# Altium schematic symbol library MSP430F149IPM.SchLib: 1 symbol
Pins are listed as number, name and electrical type; pins without a type are passive.

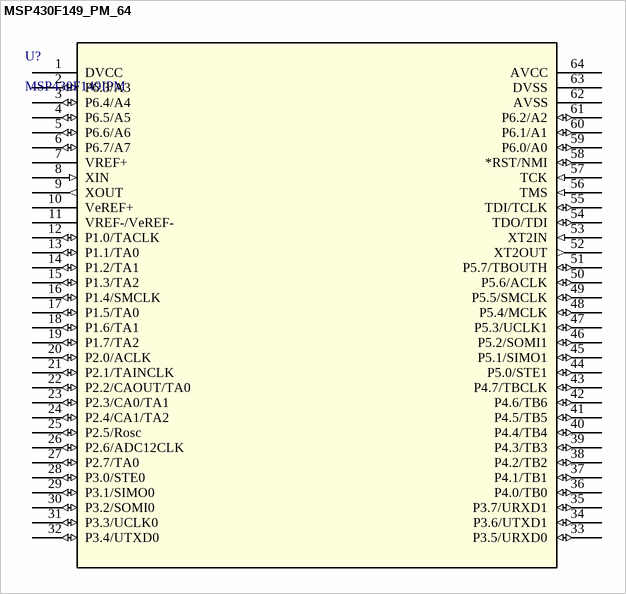
[diagram p0: symbol MSP430F149_PM_64]

## MSP430F149_PM_64
designator U?, comment MSP430F149IPM
Manufacturer_Part_Number: msp430f149_pm_64; Vendor: Texas Instruments; PACKAGE_DESIGNATOR: PM; PIN_COUNT: 64; FAMILY_NAME: 1 Series; INDUSTRY_STD_PKG_TYPE: LQFP; GENERIC_PART_NUMBER: MSP430F149; Datasheet URL: http://www.ti.com/lit/gpn/MSP430F149; Manufacturer: Texas Instruments; RefDes: RefDes; Type: DEV; Value: Value
footprint PM64
pins: 1 DVCC (power), 2 P6.3/A3 (io), 3 P6.4/A4 (io), 4 P6.5/A5 (io), 5 P6.6/A6 (io), 6 P6.7/A7 (io), 7 VREF+ (power), 8 XIN (in), 9 XOUT (out), 10 VeREF+ (power), 11 VREF-/VeREF- (power), 12 P1.0/TACLK (io), 13 P1.1/TA0 (io), 14 P1.2/TA1 (io), 15 P1.3/TA2 (io), 16 P1.4/SMCLK (io), 17 P1.5/TA0 (io), 18 P1.6/TA1 (io), 19 P1.7/TA2 (io), 20 P2.0/ACLK (io), 21 P2.1/TAINCLK (io), 22 P2.2/CAOUT/TA0 (io), 23 P2.3/CA0/TA1 (io), 24 P2.4/CA1/TA2 (io), 25 P2.5/Rosc (io), 26 P2.6/ADC12CLK (io), 27 P2.7/TA0 (io), 28 P3.0/STE0 (io), 29 P3.1/SIMO0 (io), 30 P3.2/SOMI0 (io), 31 P3.3/UCLK0 (io), 32 P3.4/UTXD0 (io), 33 P3.5/URXD0 (io), 34 P3.6/UTXD1 (io), 35 P3.7/URXD1 (io), 36 P4.0/TB0 (io), 37 P4.1/TB1 (io), 38 P4.2/TB2 (io), 39 P4.3/TB3 (io), 40 P4.4/TB4 (io), 41 P4.5/TB5 (io), 42 P4.6/TB6 (io), 43 P4.7/TBCLK (io), 44 P5.0/STE1 (io), 45 P5.1/SIMO1 (io), 46 P5.2/SOMI1 (io), 47 P5.3/UCLK1 (io), 48 P5.4/MCLK (io), 49 P5.5/SMCLK (io), 50 P5.6/ACLK (io), 51 P5.7/TBOUTH (io), 52 XT2OUT (out), 53 XT2IN (in), 54 TDO/TDI (io), 55 TDI/TCLK (io), 56 TMS (in), 57 TCK (in), 58 *RST/NMI (io), 59 P6.0/A0 (io), 60 P6.1/A1 (io), 61 P6.2/A2 (io), 62 AVSS (power), 63 DVSS (power), 64 AVCC (power)